# EAGLE library part TRAM4 (library Transputers)
TRAM size-4 board INMOS Standard Transputer Boards Source: The Transputer development and iq systems Databook 1991. Arto Kyyhkynen, artoky@dlc.fi
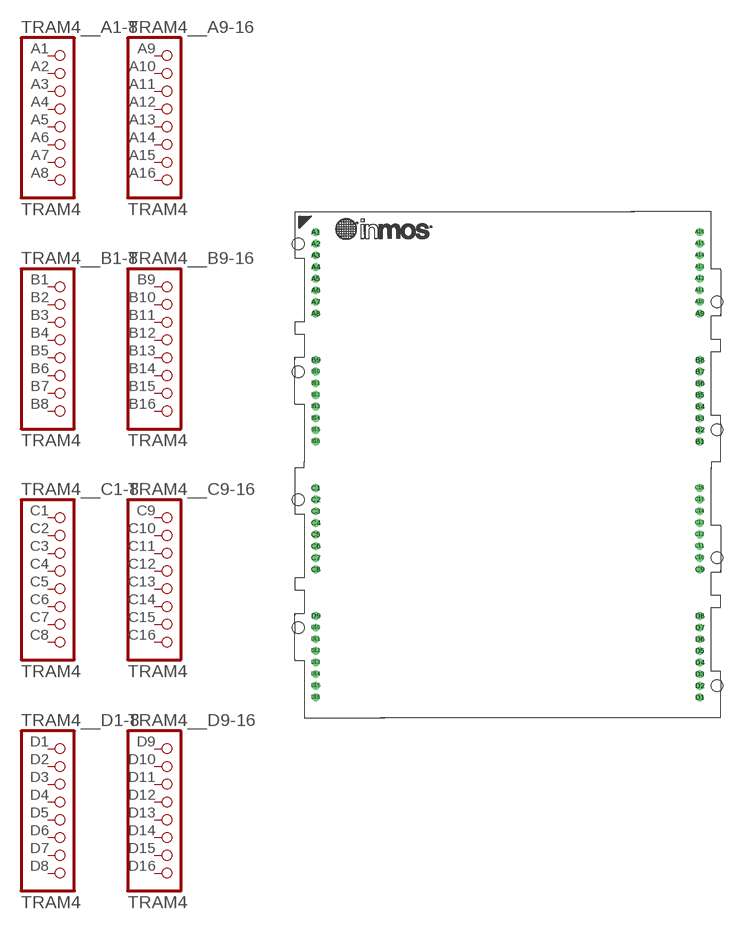
[diagram p13: symbol with the pads of TRAM_SIZE4; footprint TRAM_SIZE4]

Designator prefix TRAM4_; gates _A1-8=TRAM1PINS _A9-16=TRAM1PINS _B1-8=TRAM1PINS _B9-16=TRAM1PINS _C1-8=TRAM1PINS _C9-16=TRAM1PINS _D1-8=TRAM1PINS _D9-16=TRAM1PINS

## TRAM4  [TRAM_SIZE4]
A1  _A1-8:1  pas
A2  _A1-8:2  pas
A3  _A1-8:3  pas
A4  _A1-8:4  pas
A5  _A1-8:5  pas
A6  _A1-8:6  pas
A7  _A1-8:7  pas
A8  _A1-8:8  pas
A9  _A9-16:1  pas
A10  _A9-16:2  pas
A11  _A9-16:3  pas
A12  _A9-16:4  pas
A13  _A9-16:5  pas
A14  _A9-16:6  pas
A15  _A9-16:7  pas
A16  _A9-16:8  pas
B1  _B1-8:1  pas
B2  _B1-8:2  pas
B3  _B1-8:3  pas
B4  _B1-8:4  pas
B5  _B1-8:5  pas
B6  _B1-8:6  pas
B7  _B1-8:7  pas
B8  _B1-8:8  pas
B9  _B9-16:1  pas
B10  _B9-16:2  pas
B11  _B9-16:3  pas
B12  _B9-16:4  pas
B13  _B9-16:5  pas
B14  _B9-16:6  pas
B15  _B9-16:7  pas
B16  _B9-16:8  pas
C1  _C1-8:1  pas
C2  _C1-8:2  pas
C3  _C1-8:3  pas
C4  _C1-8:4  pas
C5  _C1-8:5  pas
C6  _C1-8:6  pas
C7  _C1-8:7  pas
C8  _C1-8:8  pas
C9  _C9-16:1  pas
C10  _C9-16:2  pas
C11  _C9-16:3  pas
C12  _C9-16:4  pas
C13  _C9-16:5  pas
C14  _C9-16:6  pas
C15  _C9-16:7  pas
C16  _C9-16:8  pas
D1  _D1-8:1  pas
D2  _D1-8:2  pas
D3  _D1-8:3  pas
D4  _D1-8:4  pas
D5  _D1-8:5  pas
D6  _D1-8:6  pas
D7  _D1-8:7  pas
D8  _D1-8:8  pas
D9  _D9-16:1  pas
D10  _D9-16:2  pas
D11  _D9-16:3  pas
D12  _D9-16:4  pas
D13  _D9-16:5  pas
D14  _D9-16:6  pas
D15  _D9-16:7  pas
D16  _D9-16:8  pas

## Footprint TRAM_SIZE4 (pad centres in mm)
TRAM size-4
drill 1.143 pad 1.676 round: A1 0,0; A2 0,-2.54; A3 0,-5.08; A4 0,-7.62; A5 0,-10.16; A6 0,-12.7; A7 0,-15.24; A8 0,-17.78; A9 83.82,-17.78; A10 83.82,-15.24; A11 83.82,-12.7; A12 83.82,-10.16; A13 83.82,-7.62; A14 83.82,-5.08; A15 83.82,-2.54; A16 83.82,0; B1 83.82,-45.72; B2 83.82,-43.18; B3 83.82,-40.64; B4 83.82,-38.1; B5 83.82,-35.56; B6 83.82,-33.02; B7 83.82,-30.48; B8 83.82,-27.94; B9 0,-27.94; B10 0,-30.48; B11 0,-33.02; B12 0,-35.56; B13 0,-38.1; B14 0,-40.64; B15 0,-43.18; B16 0,-45.72; C1 0,-55.88; C2 0,-58.42; C3 0,-60.96; C4 0,-63.5; C5 0,-66.04; C6 0,-68.58; C7 0,-71.12; C8 0,-73.66; C9 83.82,-73.66; C10 83.82,-71.12; C11 83.82,-68.58; C12 83.82,-66.04; C13 83.82,-63.5; C14 83.82,-60.96; C15 83.82,-58.42; C16 83.82,-55.88; D1 83.82,-101.6; D2 83.82,-99.06; D3 83.82,-96.52; D4 83.82,-93.98; D5 83.82,-91.44; D6 83.82,-88.9; D7 83.82,-86.36; D8 83.82,-83.82; D9 0,-83.82; D10 0,-86.36; D11 0,-88.9; D12 0,-91.44; D13 0,-93.98; D14 0,-96.52; D15 0,-99.06; D16 0,-101.6
hole 2.54 at -3.81,-2.54
hole 2.54 at -3.81,-30.48
hole 2.54 at -3.81,-58.42
hole 2.54 at -3.81,-86.36
hole 2.54 at 87.63,-99.06
hole 2.54 at 87.63,-71.12
hole 2.54 at 87.63,-43.18
hole 2.54 at 87.63,-15.24